# Altium schematic symbol library 2227_BoiteBruitage.SchLib: 13 symbols
Pins are listed as number, name and electrical type; pins without a type are passive.

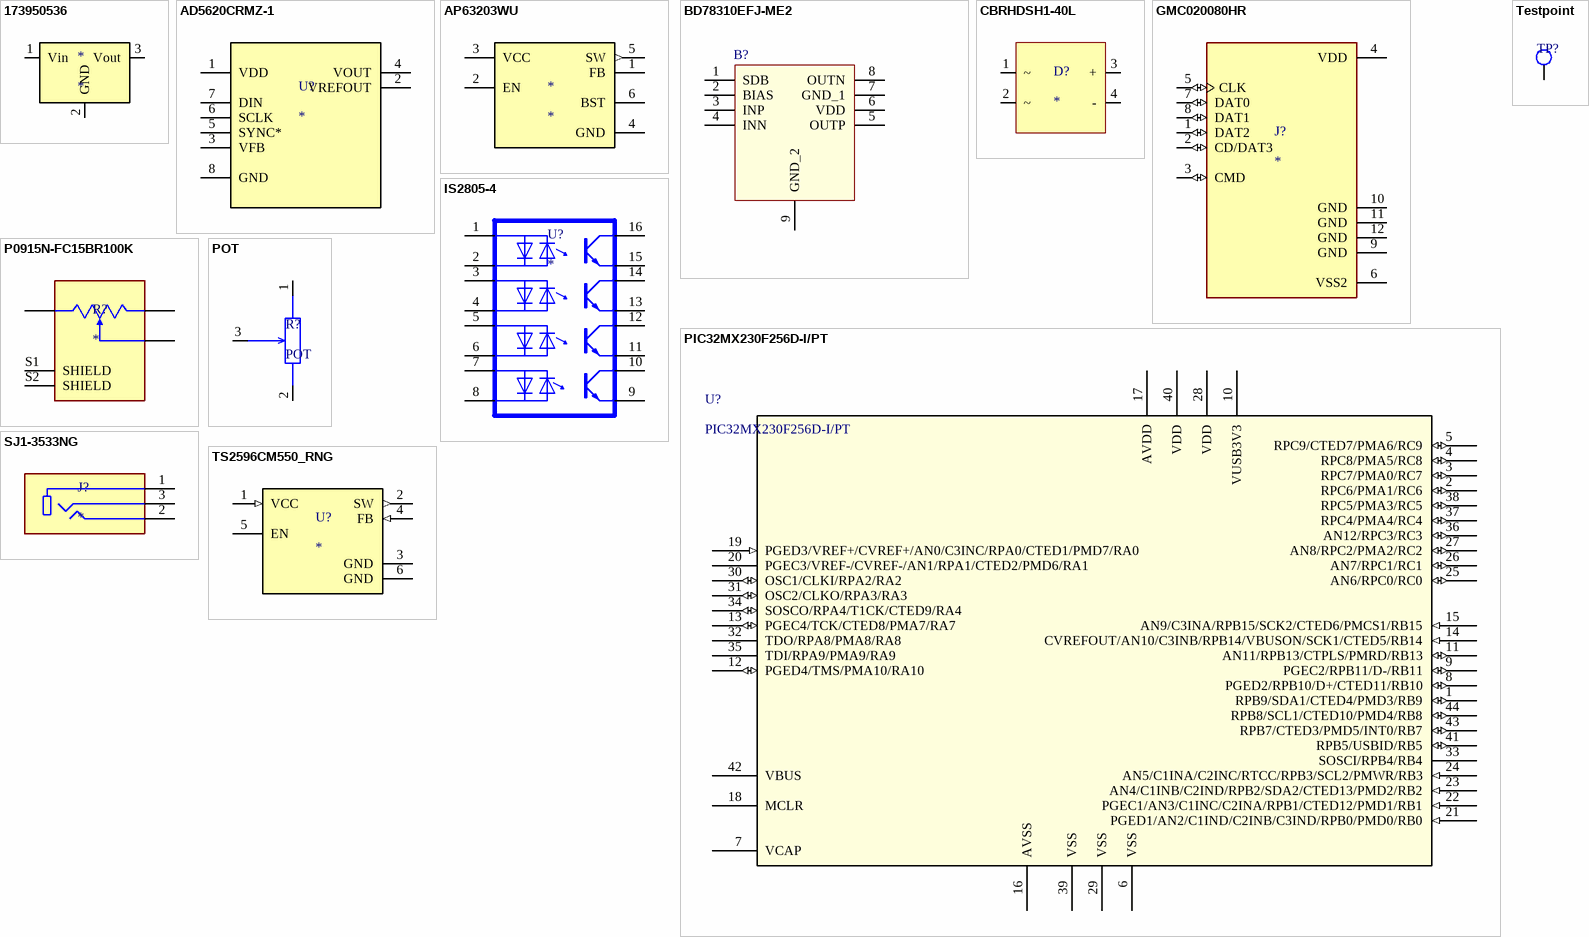
[diagram p0: symbols 173950536 to TS2596CM550_RNG]

## 173950536
designator *
pins: 1 Vin, 2 GND, 3 Vout

## AD5620CRMZ-1
designator U?
Single, 12-Bit nanoDACÂ® with 5 ppm/Â°C On-Chip Reference in SOT-23; MF: Analog Devices; MP: AD5620CRMZ-1; Value: *; Price: None; Package: MSOP-8 Analog Devices; Purchase-URL: https://pricing.snapeda.com/search/part/AD5620CRMZ-1/?ref=eda; SnapEDA_Link: https://www.snapeda.com/parts/AD5620CRMZ-1/Analog+Devices/view-part/?ref=snap; Check_prices: https://www.snapeda.com/parts/AD5620CRMZ-1/Analog+Devices/view-part/?ref=eda; Availability: In Stock
footprint SOP65P490X110-8N
pins: 1 VDD (power), 2 VREFOUT, 3 VFB, 4 VOUT, 5 SYNC*, 6 SCLK, 7 DIN, 8 GND

## AP63203WU
designator *
pins: 1 FB, 2 EN, 3 VCC, 4 GND (power), 5 SW (out), 6 BST (power)

## BD78310EFJ-ME2
designator B?
1.2W MONAURAL SPEAKER AMPLIFIER; Manufacturer_Name: ROHM Semiconductor; Geometry.Height: 1mm; Manufacturer_Part_Number: BD78310EFJ-ME2; Mouser Part Number: 755-BD78310EFJ-ME2; Mouser Price/Stock: https://www.mouser.co.uk/ProductDetail/ROHM-Semiconductor/BD78310EFJ-ME2?qs=BJlw7L4Cy78WwGkJ9o75rg%3D%3D; Arrow Part Number: *; Arrow Price/Stock: *; Mouser Testing Part Number: *; Mouser Testing Price/Stock: *; Datasheet Link: http://www.farnell.com/datasheets/2976892.pdf
footprint SOIC127P600X100-9N
pins: 1 SDB, 2 BIAS, 3 INP, 4 INN, 5 OUTP, 6 VDD, 7 GND_1, 8 OUTN, 9 GND_2

## CBRHDSH1-40L
designator D?
pins: 1 ~, 2 ~, 3 +, 4 -

## GMC020080HR
designator J?
2 In 1 Connector Sd+mmc; MP: GMC020080HR; MF: Amphenol ICC (Commercial Products); Check_prices: https://www.snapeda.com/parts/GMC020080HR/Amphenol+Commercial+Products/view-part/?ref=eda; Availability: In Stock; Purchase-URL: https://pricing.snapeda.com/search/part/GMC020080HR/?ref=eda; Package: None; Value: *; SnapEDA_Link: https://www.snapeda.com/parts/GMC020080HR/Amphenol+Commercial+Products/view-part/?ref=snap; Price: None
footprint AMPHENOL_GMC020080HR
pins: 1 DAT2 (io), 2 CD/DAT3 (io), 3 CMD (io), 4 VDD (power), 5 CLK (io), 6 VSS2 (power), 7 DAT0 (io), 8 DAT1 (io), 9 GND (power), 10 GND (power), 11 GND (power), 12 GND (power)

## IS2805-4
designator U?
MP: VOS615A-1X001T; Package: None; Price: None; Value: *; Availability: Unavailable
footprint SOIC127P700X210-4N
pins: 1 A, 2 C, 3 A, 4 C, 5 A, 6 C, 7 A, 8 C, 9 E, 10 CO, 11 E, 12 CO, 13 E, 14 CO, 15 E, 16 CO

## P0915N-FC15BR100K
designator R?
Res Conductive Plastic POT 100K Ohm 20% 0.05W(1/20W) 1(Elec)/1(Mech)Turns 6mm (12.1 X 14.85 X 28.5mm) Pin Panel Mount/Through Hole Box/Tray; MP: P0915N-FC15BR100K; MF: BI Technologies (TT electronics); Check_prices: https://www.snapeda.com/parts/P0915N-FC15BR100K/BI+Technologies/view-part/?ref=eda; Value: *; Availability: In Stock; Price: None; Package: None; SnapEDA_Link: https://www.snapeda.com/parts/P0915N-FC15BR100K/BI+Technologies/view-part/?ref=snap; Purchase-URL: https://pricing.snapeda.com/search/part/P0915N-FC15BR100K/?ref=eda
footprint TRIM_P0915N-FC15BR100K
pins: 1, 2, 3, S1 SHIELD, S2 SHIELD

## PIC32MX230F256D-I/PT
designator U?
No Description Available; Mfr_Name: Microchip; Copyright: Copyright (C) 2023 Ultra Librarian. All rights reserved.; Manufacturer_Part_Number: PIC32MX230F256D-I/PT; RefDes: RefDes; Type: DEV
footprint TQFP44_PT_MCH
pins: 1 RPB9/SDA1/CTED4/PMD3/RB9 (io), 2 RPC6/PMA1/RC6 (io), 3 RPC7/PMA0/RC7 (io), 4 RPC8/PMA5/RC8 (io), 5 RPC9/CTED7/PMA6/RC9 (io), 6 VSS, 7 VCAP (power), 8 PGED2/RPB10/D+/CTED11/RB10 (io), 9 PGEC2/RPB11/D-/RB11 (io), 10 VUSB3V3 (power), 11 AN11/RPB13/CTPLS/PMRD/RB13 (io), 12 PGED4/TMS/PMA10/RA10 (io), 13 PGEC4/TCK/CTED8/PMA7/RA7 (io), 14 CVREFOUT/AN10/C3INB/RPB14/VBUSON/SCK1/CTED5/RB14 (in), 15 AN9/C3INA/RPB15/SCK2/CTED6/PMCS1/RB15 (in), 16 AVSS, 17 AVDD (power), 18 MCLR, 19 PGED3/VREF+/CVREF+/AN0/C3INC/RPA0/CTED1/PMD7/RA0 (in), 20 PGEC3/VREF-/CVREF-/AN1/RPA1/CTED2/PMD6/RA1 (power), 21 PGED1/AN2/C1IND/C2INB/C3IND/RPB0/PMD0/RB0 (in), 22 PGEC1/AN3/C1INC/C2INA/RPB1/CTED12/PMD1/RB1 (in), 23 AN4/C1INB/C2IND/RPB2/SDA2/CTED13/PMD2/RB2 (in), 24 AN5/C1INA/C2INC/RTCC/RPB3/SCL2/PMWR/RB3 (in), 25 AN6/RPC0/RC0 (io), 26 AN7/RPC1/RC1 (io), 27 AN8/RPC2/PMA2/RC2 (io), 28 VDD (power), 29 VSS, 30 OSC1/CLKI/RPA2/RA2 (io), 31 OSC2/CLKO/RPA3/RA3 (io), 32 TDO/RPA8/PMA8/RA8, 33 SOSCI/RPB4/RB4, 34 SOSCO/RPA4/T1CK/CTED9/RA4 (io), 35 TDI/RPA9/PMA9/RA9, 36 AN12/RPC3/RC3 (io), 37 RPC4/PMA4/RC4 (io), 38 RPC5/PMA3/RC5 (io), 39 VSS, 40 VDD (power), 41 RPB5/USBID/RB5 (io), 42 VBUS, 43 RPB7/CTED3/PMD5/INT0/RB7 (io), 44 RPB8/SCL1/CTED10/PMD4/RB8 (io)

## POT
designator R?
pins: 1, 2, 3

## SJ1-3533NG
designator J?
3.5 mm Right-Angle Stereo Jack, 3 Pin PCB Mount, Isolated Ground; MP: SJ1-3533NG; MF: {'manufacturer': u'CUI'}; Price: None; Availability: Unavailable; Package: None; Value: *
footprint CUI_SJ1-3533NG
pins: 1, 2, 3

## Testpoint
designator TP?, comment TP?  (value not drawn)
pins: 1

## TS2596CM550_RNG
designator U?
MP: TS2596CM550_RNG; Package: None; Availability: Unavailable; Price: None; Value: *
footprint CONV_TS2596CM550_RNG
pins: 1 VCC (in), 2 SW (out), 3 GND (power), 4 FB (in), 5 EN, 6 GND (power)